# EAGLE library part RJHS-1PORT (library stutz-components-library)
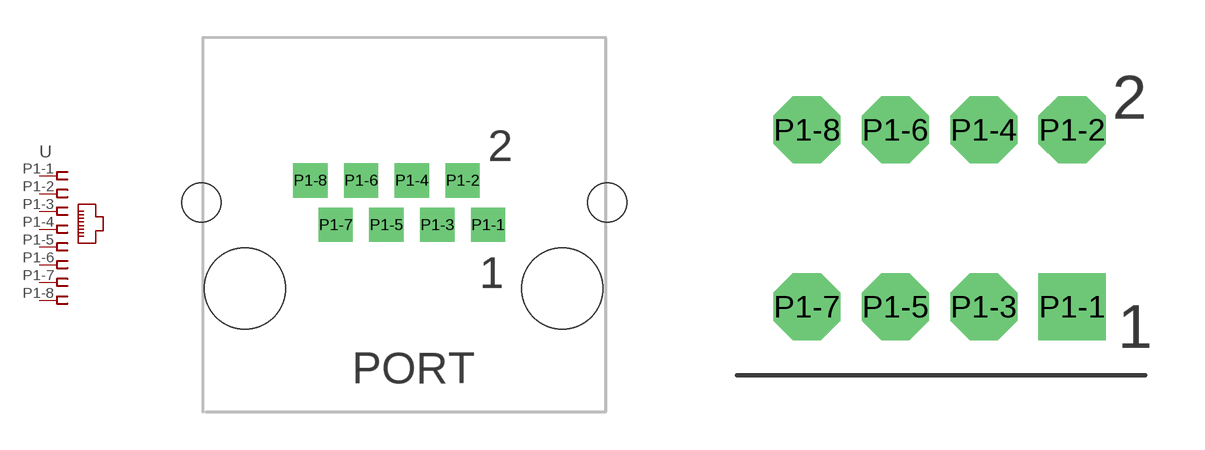
[diagram p7: symbol with the pads of RJHS-1PORT; footprints RJHS-1PORT, CAT5-HEADER]

Designator prefix -

## RJHS-1PORT  [RJHS-1PORT]
P1-1  P1-1  pas
P1-2  P1-2  pas
P1-3  P1-3  pas
P1-4  P1-4  pas
P1-5  P1-5  pas
P1-6  P1-6  pas
P1-7  P1-7  pas
P1-8  P1-8  pas

## RJHS-1PORTHEADER  [CAT5-HEADER]
Pads as for RJHS-1PORT

## Footprint RJHS-1PORT (pad centres in mm)
drill 0.864 square: P1-1 3.464,-0.054; P1-2 2.448,1.724; P1-3 1.432,-0.054; P1-4 0.416,1.724; P1-5 -0.6,-0.054; P1-6 -1.616,1.724; P1-7 -2.632,-0.054; P1-8 -3.648,1.724
hole 3.251 at -6.27,-2.594
hole 3.251 at 6.431,-2.594
hole 1.575 at -7.998,0.835
hole 1.575 at 8.226,0.835

## Footprint CAT5-HEADER (pad centres in mm)
drill 1.016 pad 1.93 square: P1-1 3.81,-3.175
drill 1.016 pad 1.93 octagon: P1-2 3.81,1.905; P1-3 1.27,-3.175; P1-4 1.27,1.905; P1-5 -1.27,-3.175; P1-6 -1.27,1.905; P1-7 -3.81,-3.175; P1-8 -3.81,1.905